# Altium integrated library Big_Library_Current_Sense_Amplifiers.IntLib: 4 symbols
Pins are listed as number, name and electrical type; pins without a type are passive.

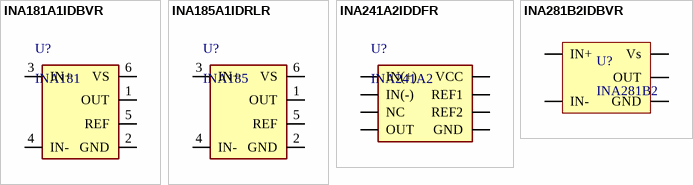
[diagram p0: symbols INA181A1IDBVR to INA281B2IDBVR]

## INA181A1IDBVR
designator U?, comment INA181
INAx181 Bidirectional, Low- and High-Side Voltage Output, / Current-Sense Amplifiers; Part Number: INA181A1IDBVR; Gain: 20V/V; Bandwith: 350kHz; Supply Current: 200uA; Input Offset Voltage: 100uV; Supply Voltage: 2.7-5.5V; ComponentLink1Description: Link; ComponentLink1URL: https://ozdisan.com/integrated-circuits-ics/linear-ics/amplifiers/INA181A1IDBVR/1056421
footprint TI TSOT-23-6 (TSOT23, 6-Leads, Body 2.90x2.80mm, Pitch 0.95mm, IPC High Density)
pins: 1 OUT, 2 GND, 3 IN+, 4 IN-, 5 REF, 6 VS

## INA185A1IDRLR
designator U?, comment INA185
INAx181 Bidirectional, Low- and High-Side Voltage Output, / Current-Sense Amplifiers; Part Number: INA185A1IDRLR; Gain: 20V/V; Bandwith: 350kHz; Supply Current: 200uA; Input Offset Voltage: 100uV; Supply Voltage: 2.7-5.5V; ComponentLink1Description: Link; ComponentLink1URL: https://www.digikey.com/en/products/detail/texas-instruments/INA185A1IDRLR/10448282
footprint TI SOT-563 DRL (SOT DRL, 6-Leads, Body 1.10x1.60mm, Pitch 0.5mm, IPC Medium Density)
pins: 1 OUT, 2 GND, 3 IN+, 4 IN-, 5 REF, 6 VS

## INA241A2IDDFR
designator U?, comment INA241A2
-5-V to 110-V bidirectional ultraprecise current sense amplifier with enhanced PWM rejection 8-SOT-23-THIN -40 to 125; Manufacturer: Texas Instruments; Manufacturer Part Number: INA241A2IDDFR; Supplier: Digi-Key; Supplier Part Number: 296-INA241A2IDDFRCT-ND; ComponentLink1Description: Link; ComponentLink1URL: https://www.digikey.com/en/products/detail/texas-instruments/INA241A2IDDFR/16982037
footprint SOT-23 -TI SOT-23-8 DDF (TSOT-23-8 Package, 0.65mm Pitch, 2.90x1.60mm Body)
pins: 1 IN(-), 2 GND, 3 REF2, 4 NC, 5 OUT, 6 VCC, 7 REF1, 8 IN(+)

## INA281B2IDBVR
designator U?, comment INA281B2
Gain: 50V/V; ComponentLink1Description: Link; ComponentLink1URL: https://www.digikey.com/en/products/detail/texas-instruments/INA281B2IDBVR/13238583
footprint SOT-23(INA281)_H
footprint SOT-23(INA281)_L
footprint SOT-23(INA281)_M
pins: 1 OUT, 2 GND, 3 Vs, 4 IN+, 5 IN-